# Altium schematic symbol library ADA4530.SchLib: 1 symbol
Pins are listed as number, name and electrical type; pins without a type are passive.

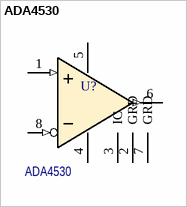
[diagram p0: symbol ADA4530]

## ADA4530
designator U?
Ultra-Low Bias Current Difet OpAmp; Назначение: Operational amplifier; Потребление, Вт: 0.0; Наименование: ADA4530
footprint SOIC-8
footprint SOIC-8_INV_HO2.8-1B
pins: 1 (in), 2 GRD, 3 IC, 4, 5, 6 (out), 7 GRD, 8 (in)